# EAGLE library part CP2102N-24 (library nixiemisc)
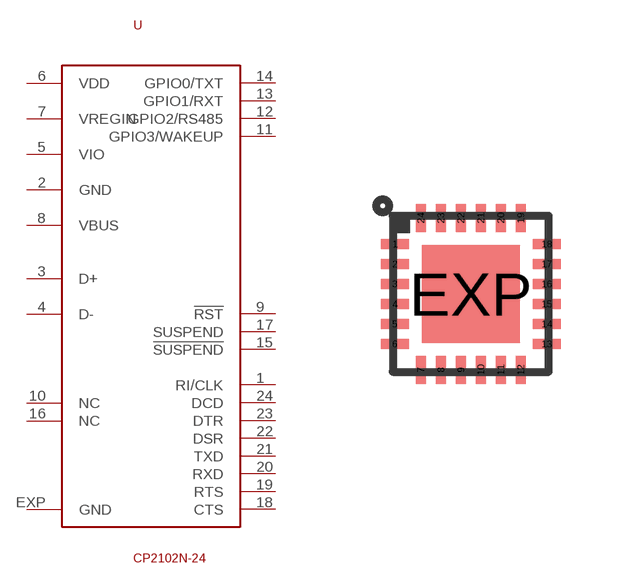
[diagram p14: symbol with the pads of QFN24-4X4; footprint QFN24-4X4]

Designator prefix U

## CP2102N-24  [QFN24-4X4]
1  RI/CLK
2  GND  pwr
3  D+  in
4  D-  in
5  VIO  pwr
6  VDD  pwr
7  VREGIN  pwr
8  VBUS  pwr
9  !RST!
10  NC  nc
11  GPIO3/WAKEUP
12  GPIO2/RS485
13  GPIO1/RXT
14  GPIO0/TXT
15  !SUSPEND!  out
16  NC  nc
17  SUSPEND  out
18  CTS  in
19  RTS  out
20  RXD  in
21  TXD  out
22  DSR  in
23  DTR  out
24  DCD  in
EXP  GND  pwr

## Footprint QFN24-4X4 (pad centres in mm)
UF Package 24-Lead (4mm × 4mm) Plastic QFN Source: http://cds.linear.com/docs/Datasheet/5598f.pdf
smd 0.7 x 0.25: 1 -1.9,1.25; 2 -1.9,0.75; 3 -1.9,0.25; 4 -1.9,-0.25; 5 -1.9,-0.75; 6 -1.9,-1.25; 13 1.9,-1.25; 14 1.9,-0.75; 15 1.9,-0.25; 16 1.9,0.25; 17 1.9,0.75; 18 1.9,1.25
smd 0.25 x 0.7: 7 -1.25,-1.9; 8 -0.75,-1.9; 9 -0.25,-1.9; 10 0.25,-1.9; 11 0.75,-1.9; 12 1.25,-1.9; 19 1.25,1.9; 20 0.75,1.9; 21 0.25,1.9; 22 -0.25,1.9; 23 -0.75,1.9; 24 -1.25,1.9
smd 2.45 x 2.45: EXP 0,0